# EAGLE library part GROMIT (library ads)
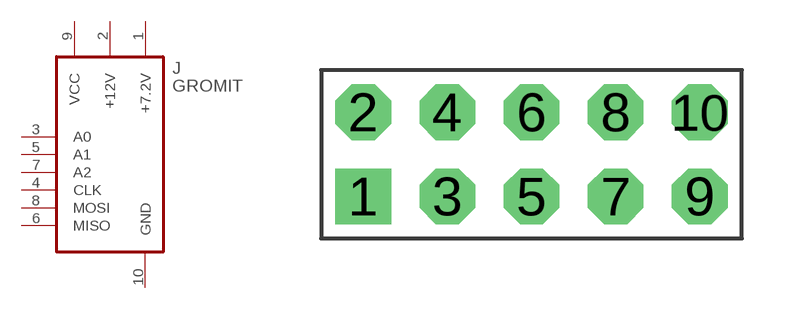
[diagram p21: symbol with the pads of CON10P2R; footprint CON10P2R]

Designator prefix J

## GROMIT  [CON10P2R]
1  +7.2V  pwr
2  +12V  pwr
3  A0
4  CLK
5  A1
6  MISO
7  A2
8  MOSI
9  VCC  pwr
10  GND  pwr

## Footprint CON10P2R (pad centres in mm)
drill 0.889 pad 1.676 square: 1 -5.08,-1.27
drill 0.889 pad 1.676 octagon: 2 -5.08,1.27; 3 -2.54,-1.27; 4 -2.54,1.27; 5 0,-1.27; 6 0,1.27; 7 2.54,-1.27; 8 2.54,1.27; 9 5.08,-1.27; 10 5.08,1.27